# EAGLE library part SN65LVDT14 (library harrison)
Texas Instruments SN65LVDT14 - one driver, four receivers
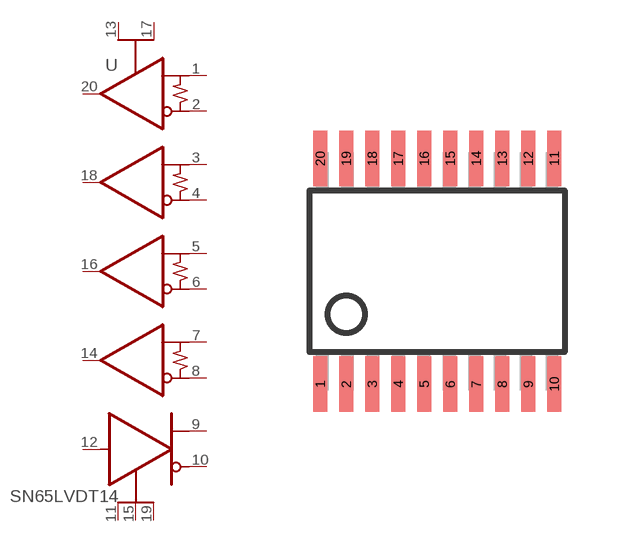
[diagram p88: symbol with the pads of TSSOP-20; footprint TSSOP-20]

Designator prefix U

## SN65LVDT14  [TSSOP-20]
1  1A  in
2  1B  in
3  2A  in
4  2B  in
5  3A  in
6  3B  in
7  4A  in
8  4B  in
9  5Y  out
10  5Z  out
11  GND1  pwr
12  5D  in
13  VCC1  pwr
14  4R  out
15  GND2  pwr
16  3R  out
17  VCC2  pwr
18  2R  out
19  GND3  pwr
20  1R  out

## Footprint TSSOP-20 (pad centres in mm)
smd 0.348 x 1.397: 1 -2.923,-2.814; 2 -2.273,-2.815; 3 -1.623,-2.815; 4 -0.973,-2.815; 5 -0.323,-2.815; 6 0.327,-2.815; 7 0.977,-2.815; 8 1.627,-2.815; 9 2.277,-2.815; 10 2.927,-2.815; 11 2.927,2.825; 12 2.277,2.825; 13 1.627,2.825; 14 0.977,2.825; 15 0.327,2.825; 16 -0.323,2.825; 17 -0.973,2.825; 18 -1.623,2.825; 19 -2.273,2.825; 20 -2.923,2.825